# Altium integrated library STM32F429ZIT6.IntLib: 1 symbol
Pins are listed as number, name and electrical type; pins without a type are passive.

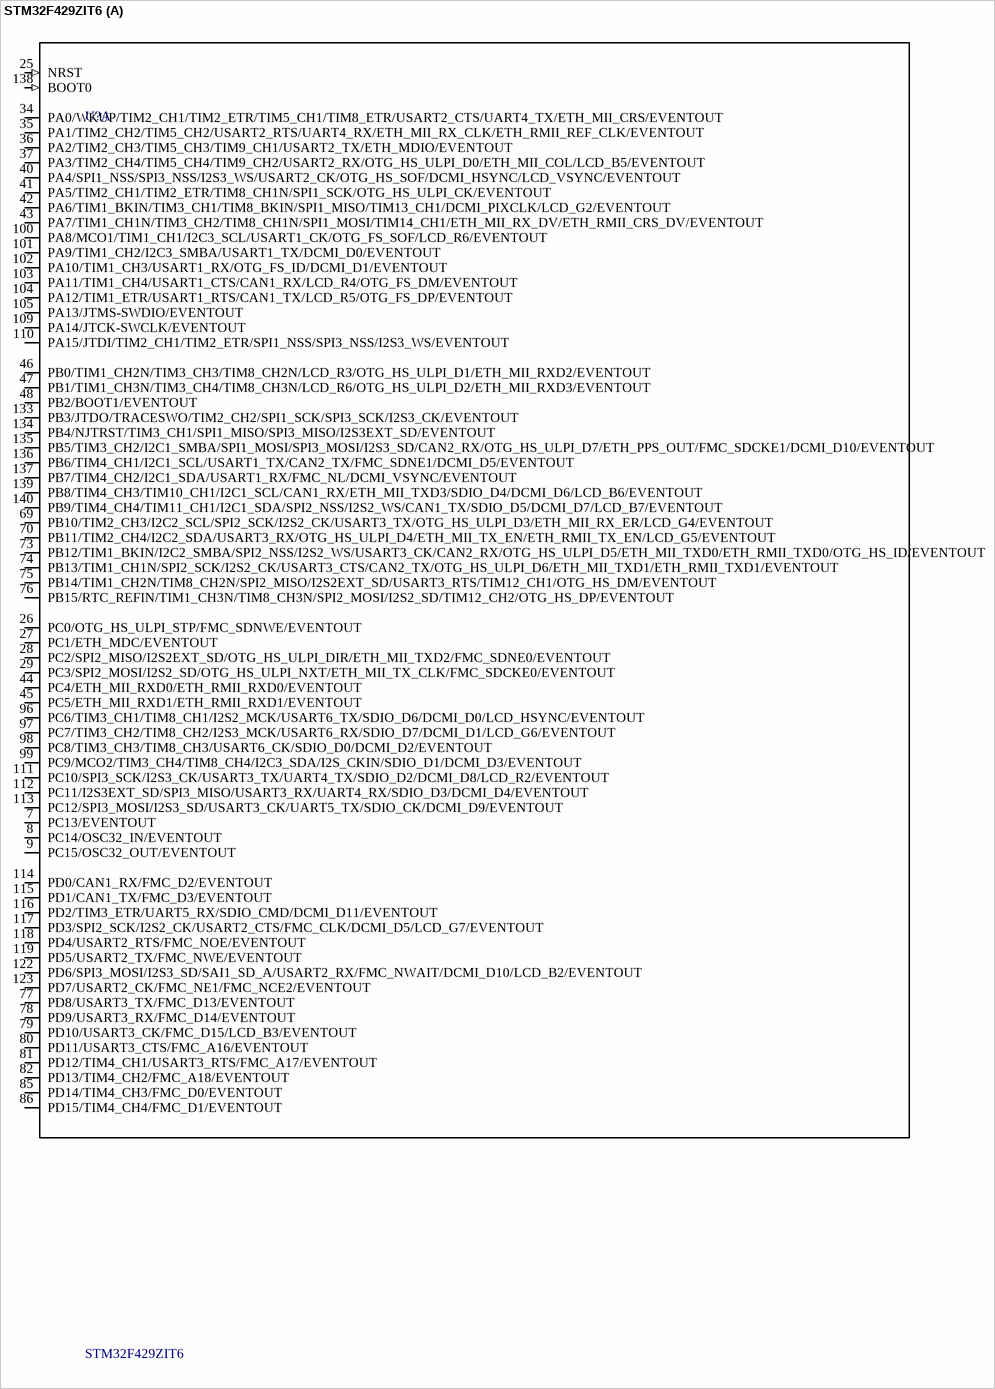
[diagram p0: symbol STM32F429ZIT6]

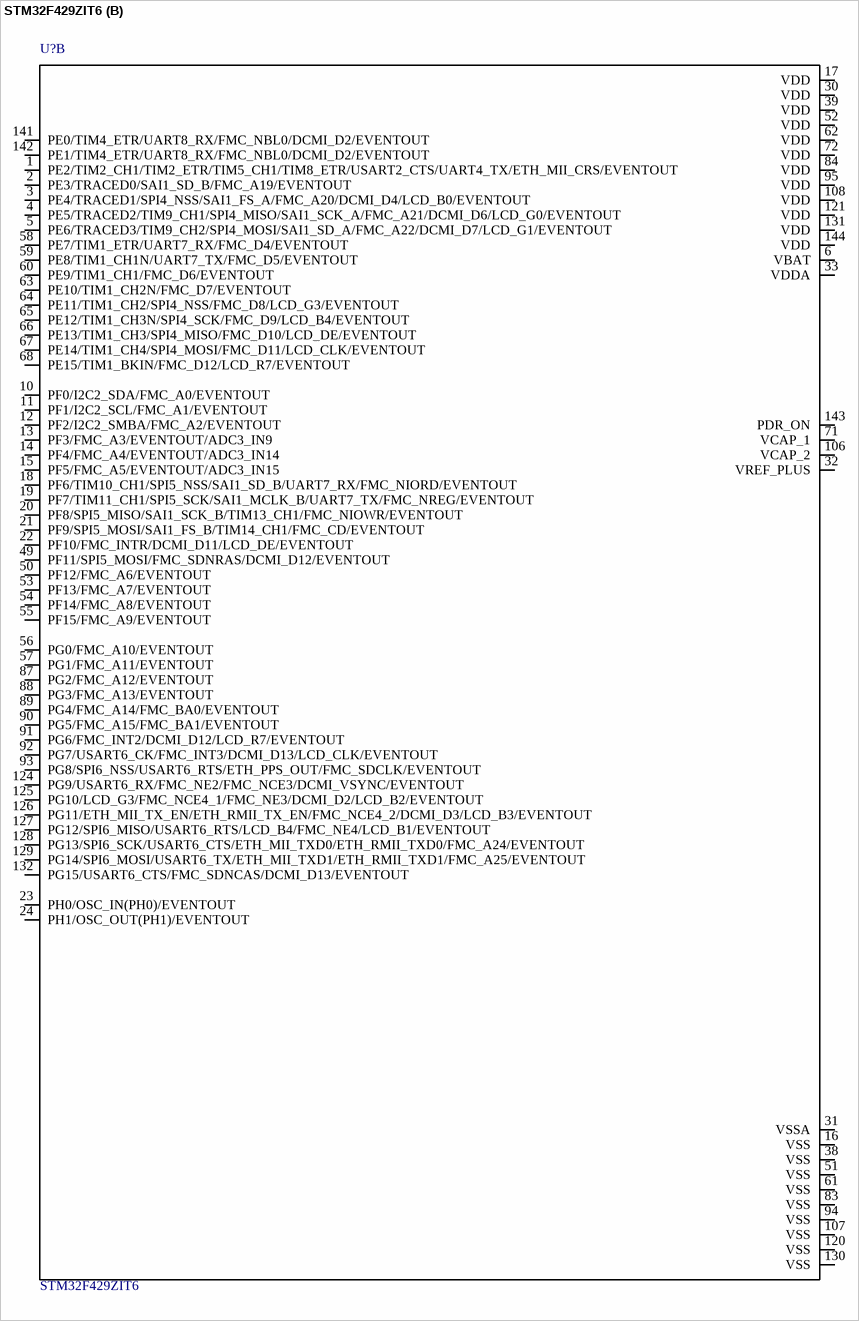
[diagram p1: symbol STM32F429ZIT6]

## STM32F429ZIT6
designator U?
/ High-performance and DSP with FPU, ARM Cortex-M4 MCU with 2 Mbytes Flash, 180 MHz CPU, Art Accelerator, SDRAM, TFT /; MF: STMicroelectronics; Digi-Key_Part_Number: 497-14053-ND; SnapEDA_Link: https://www.snapeda.com/parts/STM32F429ZIT6/STMicroelectronics/view-part/?ref=snap; MP: STM32F429ZIT6; Package: LQFP-144 STMicroelectronics; Digi-Key_Purchase_URL: https://www.digikey.com/product-detail/en/stmicroelectronics/STM32F429ZIT6/497-14053-ND/4357427?utm_source=snapeda&utm_medium=aggregator&utm_campaign=symbol; Value: *
footprint *QFP50P2200X2200X160-144N
part A pins: 7 PC13/EVENTOUT (io), 8 PC14/OSC32_IN/EVENTOUT (io), 9 PC15/OSC32_OUT/EVENTOUT (io), 25 NRST (in), 26 PC0/OTG_HS_ULPI_STP/FMC_SDNWE/EVENTOUT (io), 27 PC1/ETH_MDC/EVENTOUT (io), 28 PC2/SPI2_MISO/I2S2EXT_SD/OTG_HS_ULPI_DIR/ETH_MII_TXD2/FMC_SDNE0/EVENTOUT (io), 29 PC3/SPI2_MOSI/I2S2_SD/OTG_HS_ULPI_NXT/ETH_MII_TX_CLK/FMC_SDCKE0/EVENTOUT (io), 34 PA0/WKUP/TIM2_CH1/TIM2_ETR/TIM5_CH1/TIM8_ETR/USART2_CTS/UART4_TX/ETH_MII_CRS/EVENTOUT (io), 35 PA1/TIM2_CH2/TIM5_CH2/USART2_RTS/UART4_RX/ETH_MII_RX_CLK/ETH_RMII_REF_CLK/EVENTOUT (io), 36 PA2/TIM2_CH3/TIM5_CH3/TIM9_CH1/USART2_TX/ETH_MDIO/EVENTOUT (io), 37 PA3/TIM2_CH4/TIM5_CH4/TIM9_CH2/USART2_RX/OTG_HS_ULPI_D0/ETH_MII_COL/LCD_B5/EVENTOUT (io), 40 PA4/SPI1_NSS/SPI3_NSS/I2S3_WS/USART2_CK/OTG_HS_SOF/DCMI_HSYNC/LCD_VSYNC/EVENTOUT (io), 41 PA5/TIM2_CH1/TIM2_ETR/TIM8_CH1N/SPI1_SCK/OTG_HS_ULPI_CK/EVENTOUT (io), 42 PA6/TIM1_BKIN/TIM3_CH1/TIM8_BKIN/SPI1_MISO/TIM13_CH1/DCMI_PIXCLK/LCD_G2/EVENTOUT (io), 43 PA7/TIM1_CH1N/TIM3_CH2/TIM8_CH1N/SPI1_MOSI/TIM14_CH1/ETH_MII_RX_DV/ETH_RMII_CRS_DV/EVENTOUT (io), 44 PC4/ETH_MII_RXD0/ETH_RMII_RXD0/EVENTOUT (io), 45 PC5/ETH_MII_RXD1/ETH_RMII_RXD1/EVENTOUT (io), 46 PB0/TIM1_CH2N/TIM3_CH3/TIM8_CH2N/LCD_R3/OTG_HS_ULPI_D1/ETH_MII_RXD2/EVENTOUT (io), 47 PB1/TIM1_CH3N/TIM3_CH4/TIM8_CH3N/LCD_R6/OTG_HS_ULPI_D2/ETH_MII_RXD3/EVENTOUT (io), 48 PB2/BOOT1/EVENTOUT (io), 69 PB10/TIM2_CH3/I2C2_SCL/SPI2_SCK/I2S2_CK/USART3_TX/OTG_HS_ULPI_D3/ETH_MII_RX_ER/LCD_G4/EVENTOUT (io), 70 PB11/TIM2_CH4/I2C2_SDA/USART3_RX/OTG_HS_ULPI_D4/ETH_MII_TX_EN/ETH_RMII_TX_EN/LCD_G5/EVENTOUT (io), 73 PB12/TIM1_BKIN/I2C2_SMBA/SPI2_NSS/I2S2_WS/USART3_CK/CAN2_RX/OTG_HS_ULPI_D5/ETH_MII_TXD0/ETH_RMII_TXD0/OTG_HS_ID/EVENTOUT (io), 74 PB13/TIM1_CH1N/SPI2_SCK/I2S2_CK/USART3_CTS/CAN2_TX/OTG_HS_ULPI_D6/ETH_MII_TXD1/ETH_RMII_TXD1/EVENTOUT (io), 75 PB14/TIM1_CH2N/TIM8_CH2N/SPI2_MISO/I2S2EXT_SD/USART3_RTS/TIM12_CH1/OTG_HS_DM/EVENTOUT (io), 76 PB15/RTC_REFIN/TIM1_CH3N/TIM8_CH3N/SPI2_MOSI/I2S2_SD/TIM12_CH2/OTG_HS_DP/EVENTOUT (io), 77 PD8/USART3_TX/FMC_D13/EVENTOUT (io), 78 PD9/USART3_RX/FMC_D14/EVENTOUT (io), 79 PD10/USART3_CK/FMC_D15/LCD_B3/EVENTOUT (io), 80 PD11/USART3_CTS/FMC_A16/EVENTOUT (io), 81 PD12/TIM4_CH1/USART3_RTS/FMC_A17/EVENTOUT (io), 82 PD13/TIM4_CH2/FMC_A18/EVENTOUT (io), 85 PD14/TIM4_CH3/FMC_D0/EVENTOUT (io), 86 PD15/TIM4_CH4/FMC_D1/EVENTOUT (io), 96 PC6/TIM3_CH1/TIM8_CH1/I2S2_MCK/USART6_TX/SDIO_D6/DCMI_D0/LCD_HSYNC/EVENTOUT (io), 97 PC7/TIM3_CH2/TIM8_CH2/I2S3_MCK/USART6_RX/SDIO_D7/DCMI_D1/LCD_G6/EVENTOUT (io), 98 PC8/TIM3_CH3/TIM8_CH3/USART6_CK/SDIO_D0/DCMI_D2/EVENTOUT (io), 99 PC9/MCO2/TIM3_CH4/TIM8_CH4/I2C3_SDA/I2S_CKIN/SDIO_D1/DCMI_D3/EVENTOUT (io), 100 PA8/MCO1/TIM1_CH1/I2C3_SCL/USART1_CK/OTG_FS_SOF/LCD_R6/EVENTOUT (io), 101 PA9/TIM1_CH2/I2C3_SMBA/USART1_TX/DCMI_D0/EVENTOUT (io), 102 PA10/TIM1_CH3/USART1_RX/OTG_FS_ID/DCMI_D1/EVENTOUT (io), 103 PA11/TIM1_CH4/USART1_CTS/CAN1_RX/LCD_R4/OTG_FS_DM/EVENTOUT (io), 104 PA12/TIM1_ETR/USART1_RTS/CAN1_TX/LCD_R5/OTG_FS_DP/EVENTOUT (io), 105 PA13/JTMS-SWDIO/EVENTOUT (io), 109 PA14/JTCK-SWCLK/EVENTOUT (io), 110 PA15/JTDI/TIM2_CH1/TIM2_ETR/SPI1_NSS/SPI3_NSS/I2S3_WS/EVENTOUT (io), 111 PC10/SPI3_SCK/I2S3_CK/USART3_TX/UART4_TX/SDIO_D2/DCMI_D8/LCD_R2/EVENTOUT (io), 112 PC11/I2S3EXT_SD/SPI3_MISO/USART3_RX/UART4_RX/SDIO_D3/DCMI_D4/EVENTOUT (io), 113 PC12/SPI3_MOSI/I2S3_SD/USART3_CK/UART5_TX/SDIO_CK/DCMI_D9/EVENTOUT (io), 114 PD0/CAN1_RX/FMC_D2/EVENTOUT (io), 115 PD1/CAN1_TX/FMC_D3/EVENTOUT (io), 116 PD2/TIM3_ETR/UART5_RX/SDIO_CMD/DCMI_D11/EVENTOUT (io), 117 PD3/SPI2_SCK/I2S2_CK/USART2_CTS/FMC_CLK/DCMI_D5/LCD_G7/EVENTOUT (io), 118 PD4/USART2_RTS/FMC_NOE/EVENTOUT (io), 119 PD5/USART2_TX/FMC_NWE/EVENTOUT (io), 122 PD6/SPI3_MOSI/I2S3_SD/SAI1_SD_A/USART2_RX/FMC_NWAIT/DCMI_D10/LCD_B2/EVENTOUT (io), 123 PD7/USART2_CK/FMC_NE1/FMC_NCE2/EVENTOUT (io), 133 PB3/JTDO/TRACESWO/TIM2_CH2/SPI1_SCK/SPI3_SCK/I2S3_CK/EVENTOUT (io), 134 PB4/NJTRST/TIM3_CH1/SPI1_MISO/SPI3_MISO/I2S3EXT_SD/EVENTOUT (io), 135 PB5/TIM3_CH2/I2C1_SMBA/SPI1_MOSI/SPI3_MOSI/I2S3_SD/CAN2_RX/OTG_HS_ULPI_D7/ETH_PPS_OUT/FMC_SDCKE1/DCMI_D10/EVENTOUT (io), 136 PB6/TIM4_CH1/I2C1_SCL/USART1_TX/CAN2_TX/FMC_SDNE1/DCMI_D5/EVENTOUT (io), 137 PB7/TIM4_CH2/I2C1_SDA/USART1_RX/FMC_NL/DCMI_VSYNC/EVENTOUT (io), 138 BOOT0 (in), 139 PB8/TIM4_CH3/TIM10_CH1/I2C1_SCL/CAN1_RX/ETH_MII_TXD3/SDIO_D4/DCMI_D6/LCD_B6/EVENTOUT (io), 140 PB9/TIM4_CH4/TIM11_CH1/I2C1_SDA/SPI2_NSS/I2S2_WS/CAN1_TX/SDIO_D5/DCMI_D7/LCD_B7/EVENTOUT (io)
part B pins: 1 PE2/TIM2_CH1/TIM2_ETR/TIM5_CH1/TIM8_ETR/USART2_CTS/UART4_TX/ETH_MII_CRS/EVENTOUT (io), 2 PE3/TRACED0/SAI1_SD_B/FMC_A19/EVENTOUT (io), 3 PE4/TRACED1/SPI4_NSS/SAI1_FS_A/FMC_A20/DCMI_D4/LCD_B0/EVENTOUT (io), 4 PE5/TRACED2/TIM9_CH1/SPI4_MISO/SAI1_SCK_A/FMC_A21/DCMI_D6/LCD_G0/EVENTOUT (io), 5 PE6/TRACED3/TIM9_CH2/SPI4_MOSI/SAI1_SD_A/FMC_A22/DCMI_D7/LCD_G1/EVENTOUT (io), 6 VBAT, 10 PF0/I2C2_SDA/FMC_A0/EVENTOUT (io), 11 PF1/I2C2_SCL/FMC_A1/EVENTOUT (io), 12 PF2/I2C2_SMBA/FMC_A2/EVENTOUT (io), 13 PF3/FMC_A3/EVENTOUT/ADC3_IN9 (io), 14 PF4/FMC_A4/EVENTOUT/ADC3_IN14 (io), 15 PF5/FMC_A5/EVENTOUT/ADC3_IN15 (io), 16 VSS (power), 17 VDD (power), 18 PF6/TIM10_CH1/SPI5_NSS/SAI1_SD_B/UART7_RX/FMC_NIORD/EVENTOUT (io), 19 PF7/TIM11_CH1/SPI5_SCK/SAI1_MCLK_B/UART7_TX/FMC_NREG/EVENTOUT (io), 20 PF8/SPI5_MISO/SAI1_SCK_B/TIM13_CH1/FMC_NIOWR/EVENTOUT (io), 21 PF9/SPI5_MOSI/SAI1_FS_B/TIM14_CH1/FMC_CD/EVENTOUT (io), 22 PF10/FMC_INTR/DCMI_D11/LCD_DE/EVENTOUT (io), 23 PH0/OSC_IN(PH0)/EVENTOUT (io), 24 PH1/OSC_OUT(PH1)/EVENTOUT (io), 30 VDD (power), 31 VSSA (power), 32 VREF_PLUS, 33 VDDA (power), 38 VSS (power), 39 VDD (power), 49 PF11/SPI5_MOSI/FMC_SDNRAS/DCMI_D12/EVENTOUT (io), 50 PF12/FMC_A6/EVENTOUT (io), 51 VSS (power), 52 VDD (power), 53 PF13/FMC_A7/EVENTOUT (io), 54 PF14/FMC_A8/EVENTOUT (io), 55 PF15/FMC_A9/EVENTOUT (io), 56 PG0/FMC_A10/EVENTOUT (io), 57 PG1/FMC_A11/EVENTOUT (io), 58 PE7/TIM1_ETR/UART7_RX/FMC_D4/EVENTOUT (io), 59 PE8/TIM1_CH1N/UART7_TX/FMC_D5/EVENTOUT (io), 60 PE9/TIM1_CH1/FMC_D6/EVENTOUT (io), 61 VSS (power), 62 VDD (power), 63 PE10/TIM1_CH2N/FMC_D7/EVENTOUT (io), 64 PE11/TIM1_CH2/SPI4_NSS/FMC_D8/LCD_G3/EVENTOUT (io), 65 PE12/TIM1_CH3N/SPI4_SCK/FMC_D9/LCD_B4/EVENTOUT (io), 66 PE13/TIM1_CH3/SPI4_MISO/FMC_D10/LCD_DE/EVENTOUT (io), 67 PE14/TIM1_CH4/SPI4_MOSI/FMC_D11/LCD_CLK/EVENTOUT (io), 68 PE15/TIM1_BKIN/FMC_D12/LCD_R7/EVENTOUT (io), 71 VCAP_1, 72 VDD (power), 83 VSS (power), 84 VDD (power), 87 PG2/FMC_A12/EVENTOUT (io), 88 PG3/FMC_A13/EVENTOUT (io), 89 PG4/FMC_A14/FMC_BA0/EVENTOUT (io), 90 PG5/FMC_A15/FMC_BA1/EVENTOUT (io), 91 PG6/FMC_INT2/DCMI_D12/LCD_R7/EVENTOUT (io), 92 PG7/USART6_CK/FMC_INT3/DCMI_D13/LCD_CLK/EVENTOUT (io), 93 PG8/SPI6_NSS/USART6_RTS/ETH_PPS_OUT/FMC_SDCLK/EVENTOUT (io), 94 VSS (power), 95 VDD (power), 106 VCAP_2, 107 VSS (power), 108 VDD (power), 120 VSS (power), 121 VDD (power), 124 PG9/USART6_RX/FMC_NE2/FMC_NCE3/DCMI_VSYNC/EVENTOUT (io), 125 PG10/LCD_G3/FMC_NCE4_1/FMC_NE3/DCMI_D2/LCD_B2/EVENTOUT (io), 126 PG11/ETH_MII_TX_EN/ETH_RMII_TX_EN/FMC_NCE4_2/DCMI_D3/LCD_B3/EVENTOUT (io), 127 PG12/SPI6_MISO/USART6_RTS/LCD_B4/FMC_NE4/LCD_B1/EVENTOUT (io), 128 PG13/SPI6_SCK/USART6_CTS/ETH_MII_TXD0/ETH_RMII_TXD0/FMC_A24/EVENTOUT (io), 129 PG14/SPI6_MOSI/USART6_TX/ETH_MII_TXD1/ETH_RMII_TXD1/FMC_A25/EVENTOUT (io), 130 VSS (power), 131 VDD (power), 132 PG15/USART6_CTS/FMC_SDNCAS/DCMI_D13/EVENTOUT (io), 141 PE0/TIM4_ETR/UART8_RX/FMC_NBL0/DCMI_D2/EVENTOUT (io), 142 PE1/TIM4_ETR/UART8_RX/FMC_NBL0/DCMI_D2/EVENTOUT (io), 143 PDR_ON, 144 VDD (power)